# Altium schematic symbol library sign_lib.SchLib: 24 symbols
Pins are listed as number, name and electrical type; pins without a type are passive.

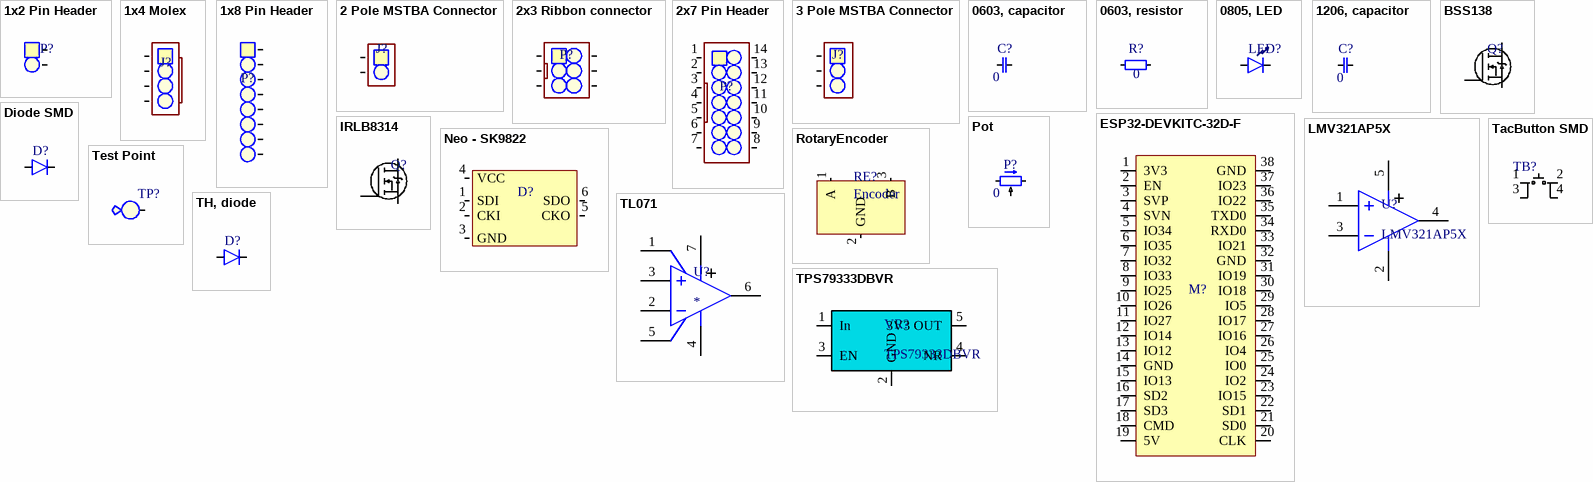
[diagram p0: symbols 1x2 Pin Header to TPS79333DBVR]

## 1x2 Pin Header
designator P?  (value not drawn)
2.54 mm, TH; Value: 1x2 Pin Header
footprint padtwo_L (Pad Diameter 2 mm, Hole  0.3 mm, Pitch 2.54 mm)
footprint SMD_PAD (1x2 2.54 mm pitch)
footprint 1x2 Bent (Diameter 2mm, Hole 1mm)
pins: 1, 2

## 1x4 Molex
designator J?  (value not drawn)
footprint 1x4 Bent Pin Header (1x4 Bent Pin Header SMD, 2.54 mm)
pins: 1, 2, 3, 4

## 1x8 Pin Header
designator P?  (value not drawn)
2.54 mm; Value: 1x8 Pin Header
footprint 1x8 Pin HEader
pins: 1, 2, 3, 4, 5, 6, 7, 8

## 2 Pole MSTBA Connector
designator J?  (value not drawn)
footprint 2POLE_MSTBA_ANGLE
footprint 2POLE_MSTBA
pins: 1, 2

## 2x3 Ribbon connector
designator P?, comment 2x3 Pin Header  (value not drawn)
2x3 Ribbon connector; Value: 2x3 Pin Header, 2.54mm
footprint 2x3 PH (2x3 Pin Header, 2.54 pitch)
pins: 1, 2, 3, 4, 5, 6

## 2x7 Pin Header
designator P?  (value not drawn)
2x7 Pin Header, 2.54 mm; Value: 1x14 Pin Header, 2.54 mm
footprint 2x7HEADER_SHROUDED
pins: 1, 2, 3, 4, 5, 6, 7, 8, 9, 10, 11, 12, 13, 14

## 3 Pole MSTBA Connector
designator J?  (value not drawn)
footprint 3POLE_MSTBA_ANGLE
footprint 3POLE_MSTBA
pins: 1, 2, 3

## 0603, capacitor
designator C?  value 0  (hidden comment: *)
Order number: *
footprint 0603 cap
footprint 0402 CAP
pins: 0, 1

## 0603, resistor
designator R?  value 0
footprint 0603
footprint 0402 res
pins: 0, 1

## 0805, LED
designator LED?  (value not drawn)
Value: 0805 LED
footprint 0805_led
pins: 0 Cathode, 1

## 1206, capacitor
designator C?  value 0  (hidden comment: *)
footprint 1206, capasitor (Generic 1206)
pins: 0, 1

## BSS138
designator Q?  (value not drawn)
N-Channel Logic Level Enhancement Mode Field Effect Transistor
footprint SOT323
footprint SOT23
pins: 1 G, 2 S, 3 D

## Diode SMD
designator D?, comment BAT18  (value not drawn)
Electrokit art: 40311018, 100mA, Vf 1.2V, 35V
footprint SOT23
pins: 1, 3

## ESP32-DEVKITC-32D-F
designator M?  (value not drawn)
footprint ESP32_DEVKITC
pins: 1 3V3, 2 EN, 3 SVP, 4 SVN, 5 IO34, 6 IO35, 7 IO32, 8 IO33, 9 IO25, 10 IO26, 11 IO27, 12 IO14, 13 IO12, 14 GND, 15 IO13, 16 SD2, 17 SD3, 18 CMD, 19 5V, 20 CLK, 21 SD0, 22 SD1, 23 IO15, 24 IO2, 25 IO0, 26 IO4, 27 IO16, 28 IO17, 29 IO5, 30 IO18, 31 IO19, 32 GND, 33 IO21, 34 RXD0, 35 TXD0, 36 IO22, 37 IO23, 38 GND

## IRLB8314
designator Q?  (value not drawn)
footprint TO-220
pins: 1 G, 2 D, 3 S

## LMV321AP5X
designator U?
Operational Amplifier, Low Power, Rail to Rail Output, CMOS Op-Amp; Manufacturer: ON Semiconductor / Fairchild; Operating Supply Voltage: 5.5V; Voltage Gain: 70dB; Min Dual Supply Voltage: 1.35V; Max Dual Supply Voltage: 2.75V; Common Mode Rejection Ratio: 50dB; Number of Channels: 1; Output Current: 34mA; Slew Rate: 1.5V/µs; Nominal Supply Current: 80uA; Input Offset Voltage (Vos): 7mV; Input Bias Current: 1nA; Gain Bandwidth Product: 1.4MHz; Min Supply Voltage: 2.7V; Operating Supply Current: 100uA; Supplier 1: Mouser; Manufacturer Part Number: LMV321AP5X; RoHS: Yes; Category: Amplifiers - Op Amps, Buffer, Instrumentation; Pricing 1: 1=0,51000, 10=0,43100, 50=0,43100, 100=0,29900, 500=0,25300, 1000=0,19600, 3000=0,17700, 9000=0,16700, 10000=0,16700 (USD); Mount: Surface Mount; Case/Package: SC; Number of Pins: 5; Weight: 23g; Min Operating Temperature: -40°C; Max Operating Temperature: 125°C; Packaging: Tape and Reel; Max Supply Voltage: 5.5V; Package Quantity: 1; Bandwidth: 1.4MHz; Unity Gain Bandwidth Product: 1.4MHz; Number of Circuits: 1; Output Current per Channel: 34mA; Number of Elements: 1; Power Supply Rejection Ratio (PSRR): 50dB; Number of Amplifiers: 1; Length: 2.2mm; Width: 1.35mm; Height: 1mm; Radiation Hardening: No; REACH SVHC: No SVHC; Lead Free: Lead Free; RoHS Compliant: Yes; ComponentLink1URL: https://datasheet.ciiva.com/25629/0900766b810c08e0-25629312.pdf?src-supplier=RSComponents; ComponentLink1Description: https://datasheet.ciiva.com/25629/0900766b810c08e0-25629312.pdf?src-supplier=RSComponents; ComponentLink2URL: https://datasheet.ciiva.com/17359/lmv321-17359885.pdf?src-supplier=Future+Electronics; ComponentLink2Description: https://datasheet.ciiva.com/17359/lmv321-17359885.pdf?src-supplier=Future+Electronics; ComponentLink3URL: https://datasheet.ciiva.com/26243/lmv358-26243564.pdf?src-supplier=Avnet+Europe; ComponentLink3Description: https://datasheet.ciiva.com/26243/lmv358-26243564.pdf?src-supplier=Avnet+Europe; ComponentLink4URL: https://datasheet.ciiva.com/1792/lmv321-1792987.pdf?src-supplier=Digi-Key; ComponentLink4Description: https://datasheet.ciiva.com/1792/lmv321-1792987.pdf?src-supplier=Digi-Key; ComponentLink5URL: https://datasheet.ciiva.com/1792/lmv321-1792988.pdf?src-supplier=Digi-Key; ComponentLink5Description: https://datasheet.ciiva.com/1792/lmv321-1792988.pdf?src-supplier=Digi-Key; ComponentLink6URL: https://datasheet.ciiva.com/1792/lmv321-1792986.pdf?src-supplier=Digi-Key; ComponentLink6Description: https://datasheet.ciiva.com/1792/lmv321-1792986.pdf?src-supplier=Digi-Key; Supplier Part Number 1: 512-LMV321AP5X
footprint SOT23-5 (SOT23, 5-Leads, Body 2,90x2,80mm, Pitch 0,95mm, IPC Medium Density)
pins: 1 IN+, 2 V- (power), 3 IN-, 4 OUT, 5 V+ (power)

## Neo - SK9822
designator D?  (value not drawn)
Value: WS2812; DigiKey: 1568-1800-ND
footprint SK9822_FLIPPED
footprint SK9822
pins: 1 SDI, 2 CKI, 3 GND, 4 VCC, 5 CKO, 6 SDO

## Pot
designator P?  value 0  (hidden comment: *)
footprint POT_TH1 (270 Degree)
footprint TRIM_POT
footprint TRIM_POT2
pins: 1, 2, 3

## RotaryEncoder
designator RE?, comment Encoder
footprint RotaryEncoder
pins: 1 A, 2 GND, 3 B

## TacButton SMD
designator TB?, comment Tactile Button  (value not drawn)
Tactile Switch Small Low; Value: Button SMD; ELFA: 110-87-406
footprint tacButton smd
pins: 1, 2, 3, 4

## Test Point
designator TP?  (value not drawn)
Value: Test point; Farnell: 1702006
footprint testPoint (Diameter 2mm, Hole 0.3mm)
footprint TESTPOINT_SMD (Diameter 2mm, Hole 0.3mm)
pins: 0

## TH, diode
designator D?
footprint TH (Spacing 9mm)
pins: 1, 2

## TL071
designator U?
footprint SOIC8 (SOIC, 8-Leads, Body 4,90x3,90mm, Pitch 1,27mm, IPC Medium Density)
pins: 1 OS TRIM, 2 IN-, 3 IN+, 4 V- (power), 5 OS TRIM, 6 OUT, 7 V+ (power)

## TPS79333DBVR
designator VR?
Low Dropout Regulators(LDO) Positive Fixed 180mV @ 200mA 5.5V 3.3V 200mA SOT-23-5 RoHS; Manufacturer: Texas Instruments; Number of Outputs: 1; Dropout Voltage: 102mV; Max Power Dissipation: 560mW; Min Input Voltage: 2.7V; Min Current Limit: 285mA; Input Bias Current: 170uA; Quiescent Current: 200uA; Output Voltage Accuracy: 2%; Supplier 1: Mouser; Manufacturer Part Number: TPS79333DBVR; RoHS: Yes; Category: Voltage Regulators - Linear; Pricing 1: 1=0,94000, 10=0,81900, 50=0,81900, 100=0,62800, 250=0,58300, 500=0,49700, 1000=0,39700, 3000=0,36000, 10000=0,36000 (USD); Case/Package: SOT-23; Number of Pins: 5; Min Operating Temperature: -40°C; Max Operating Temperature: 125°C; Output Voltage: 3.3V; Output Current: 200mA; Packaging: Tape and Reel; Package Quantity: 1; Max Output Current: 200mA; Max Input Voltage: 5.5V; Number of Regulators: 1; Min Output Voltage: 3.3V; Polarity: Positive; Power Dissipation: 560mW; Max Output Voltage: 3.3V; Accuracy: 2%; Output Type: Fixed; Nominal Output Voltage: 3.3V; Power Rating: 560mW; Max Supply Voltage: 5.5V; Min Supply Voltage: 2.7V; Termination: SMD/SMT; Current Rating: 200mA; Length: 2.9mm; Width: 1.6mm; Height: 1.15mm; Radiation Hardening: No; Lead Free: Lead Free; RoHS Compliant: Yes; REACH SVHC: No SVHC; ComponentLink1URL: https://datasheet.ciiva.com/34302/1123416-34302001.pdf?src-supplier=Jameco; ComponentLink1Description: https://datasheet.ciiva.com/34302/1123416-34302001.pdf?src-supplier=Jameco; ComponentLink2URL: https://datasheet.ciiva.com/22734/1828169-22734577.pdf?src-supplier=Farnell; ComponentLink2Description: https://datasheet.ciiva.com/22734/1828169-22734577.pdf?src-supplier=Farnell; Supplier Part Number 1: 595-TPS79333DBVR
footprint SOT23-5 (SOT23, 5-Leads, Body 2,90x2,80mm, Pitch 0,95mm, IPC Medium Density)
pins: 1 In, 2 GND, 3 EN, 4 NR, 5 3V3 OUT